# EAGLE library part ZTW_30A_BLDCESC (library meltylib)
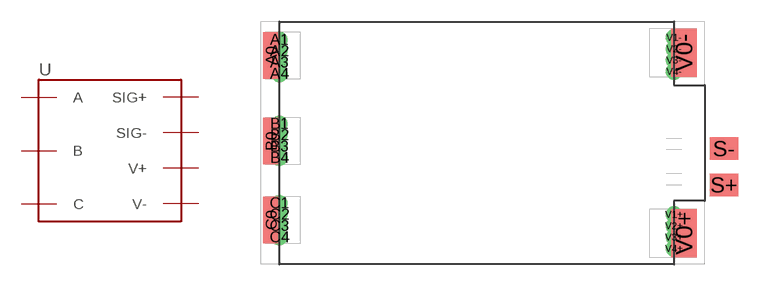
[diagram p0: symbol with the pads of ZTW_SPIDER_30A_HV_OPTO_ESC; footprint ZTW_SPIDER_30A_HV_OPTO_ESC]

Designator prefix U

## ZTW_30A_BLDCESC  [ZTW_SPIDER_30A_HV_OPTO_ESC]
A0  A
A1  A
A2  A
A3  A
A4  A
B0  B
B1  B
B2  B
B3  B
B4  B
C0  C
C1  C
C2  C
C3  C
C4  C
S+  SIG+
S-  SIG-
V0+  V+
V0-  V-
V1+  V+
V1-  V-
V2+  V+
V2-  V-
V3+  V+
V3-  V-
V4+  V+
V4-  V-

## Footprint ZTW_SPIDER_30A_HV_OPTO_ESC (pad centres in mm)
ZTW Spider Premium Pro 30A HV Opto ESC 2~6s https://hobbyking.com/en_us/spider-pro-premium-30a-opto-2-6s.html SKU 164000104-0
smd 1.143 x 3.239: A0 0.711,14.628; B0 0.711,8.631; C0 0.711,3.119
drill 0.635: A1 1.27,15.716; A2 1.27,14.922; A3 1.27,14.129; A4 1.27,13.335; B1 1.27,9.842; B2 1.27,9.049; B3 1.27,8.255; B4 1.27,7.461; C1 1.27,4.286; C2 1.27,3.493; C3 1.27,2.699; C4 1.27,1.905; V1+ 28.892,3.493; V1- 28.892,15.875; V2+ 28.892,2.699; V2- 28.892,15.081; V3+ 28.892,1.905; V3- 28.892,14.287; V4+ 28.892,1.111; V4- 28.892,13.494
smd 1.981 x 1.575: S+ 32.385,5.556; S- 32.385,8.096
smd 1.778 x 3.365: V0+ 29.591,2.177; V0- 29.591,14.823